# Altium schematic symbol library AT25SF041B-SSHB-B.SchLib: 1 symbol
Pins are listed as number, name and electrical type; pins without a type are passive.

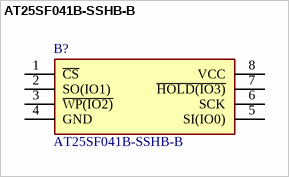
[diagram p0: symbol AT25SF041B-SSHB-B]

## AT25SF041B-SSHB-B
designator B?
The AT25SF041B is a member of our standard class code and data storage solutions designed for 3V systems in which program code is shadowed from Flash memory into embedded or external RAM for execution.The architecture includes erase block sizes that are optimized to meet the needs of today's code and data storage applications and three security register pages for unique device serialization, system-level Electronic Serial Number (ESN) storage, locked key storage, etc.	Universally compatible pinout and comma; Manufacturer_Name: Renesas Electronics; Geometry.Height: 1.75mm; Mouser Part Number: 988-AT25SF041-SSH-B; Mouser Price/Stock: https://www.mouser.co.uk/ProductDetail/Renesas-Dialog/AT25SF041B-SSHB-B?qs=IS%252B4QmGtzzpXYmyz2tD79g%3D%3D; Manufacturer_Part_Number: AT25SF041B-SSHB-B; Datasheet Link: https://www.renesas.com/us/en/products/memory-logic/non-volatile-memory/spi-nor-flash/dual-quad-spi-memory/at25sf041b-4mbit-27v-minimum-spi-serial-flash-memory-dual-io-support
footprint SOIC127P600X175-8N
pins: 1 ~{CS}, 2 SO(IO1), 3 ~{WP(IO2)}, 4 GND, 5 SI(IO0), 6 SCK, 7 ~{HOLD(IO3)}, 8 VCC